# Altium footprint library 418217270908.PcbLib: 1 footprints
Each footprint in its own frame and in the unit in brackets; x right, y up, seen from the top. Pads: shape width x height; smd on the part's side, far side on the other; paste and mask are expansions set on the pad; w line width, h text height; cw(c..) or ccw(c..) is an arc to the next point about the centre after c.
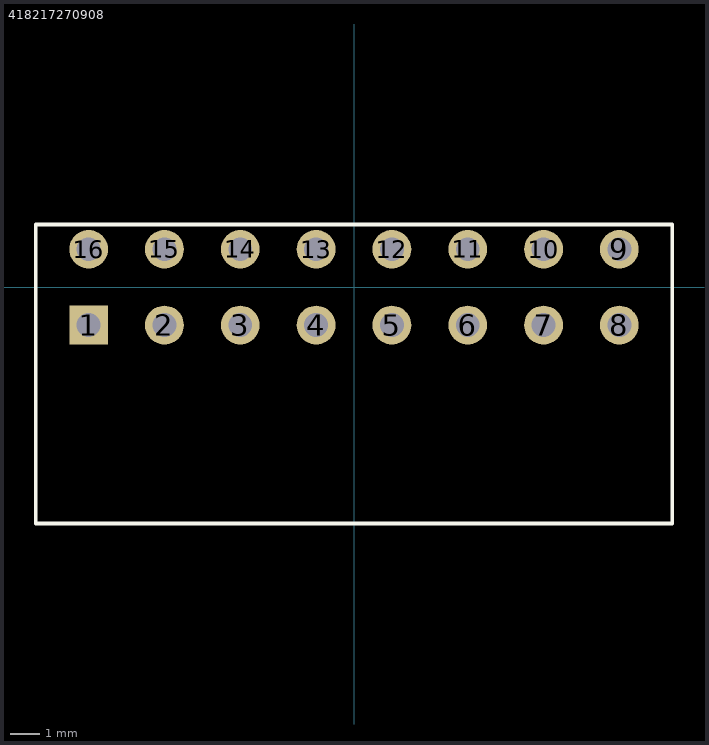
[diagram p0: the footprint, top view; thin cyan lines are the x and y axes]

## 418217270908 [mm] "08p, 2.54mm Pitch, Right Angled, Box Type, THT, raised Actuator, red, without Tape, Tube"
pads (16):
  rect 1.3x1.3 hole 0.8: 1(-8.89,-1.27)
  round 1.3 hole 0.8: 2(-6.35,-1.27) 3(-3.81,-1.27) 4(-1.27,-1.27) 5(1.27,-1.27) 6(3.81,-1.27) 7(6.35,-1.27) 8(8.89,-1.27) 9(8.89,1.27) 10(6.35,1.27) 11(3.81,1.27) 12(1.27,1.27) 13(-1.27,1.27) 14(-3.81,1.27) 15(-6.35,1.27) 16(-8.89,1.27)
Top Overlay:
  lines w0.127: -10.66,1.27 -10.66,-7.92 ; 10.66,1.27 10.66,-7.92 ; -10.66,-7.92 10.66,-7.92 ; -10.66,-7.92 -10.66,2.1 10.66,2.1 10.66,-7.92 ; -10.66,-7.92 10.66,-7.92
3D body "418217270908.stp": height 9.61, standoff -2.79, extent -10.66,-7.92 10.66,1.47